# Altium integrated library Oscillator - MEMS.IntLib: 171 symbols (part 2 of 3)
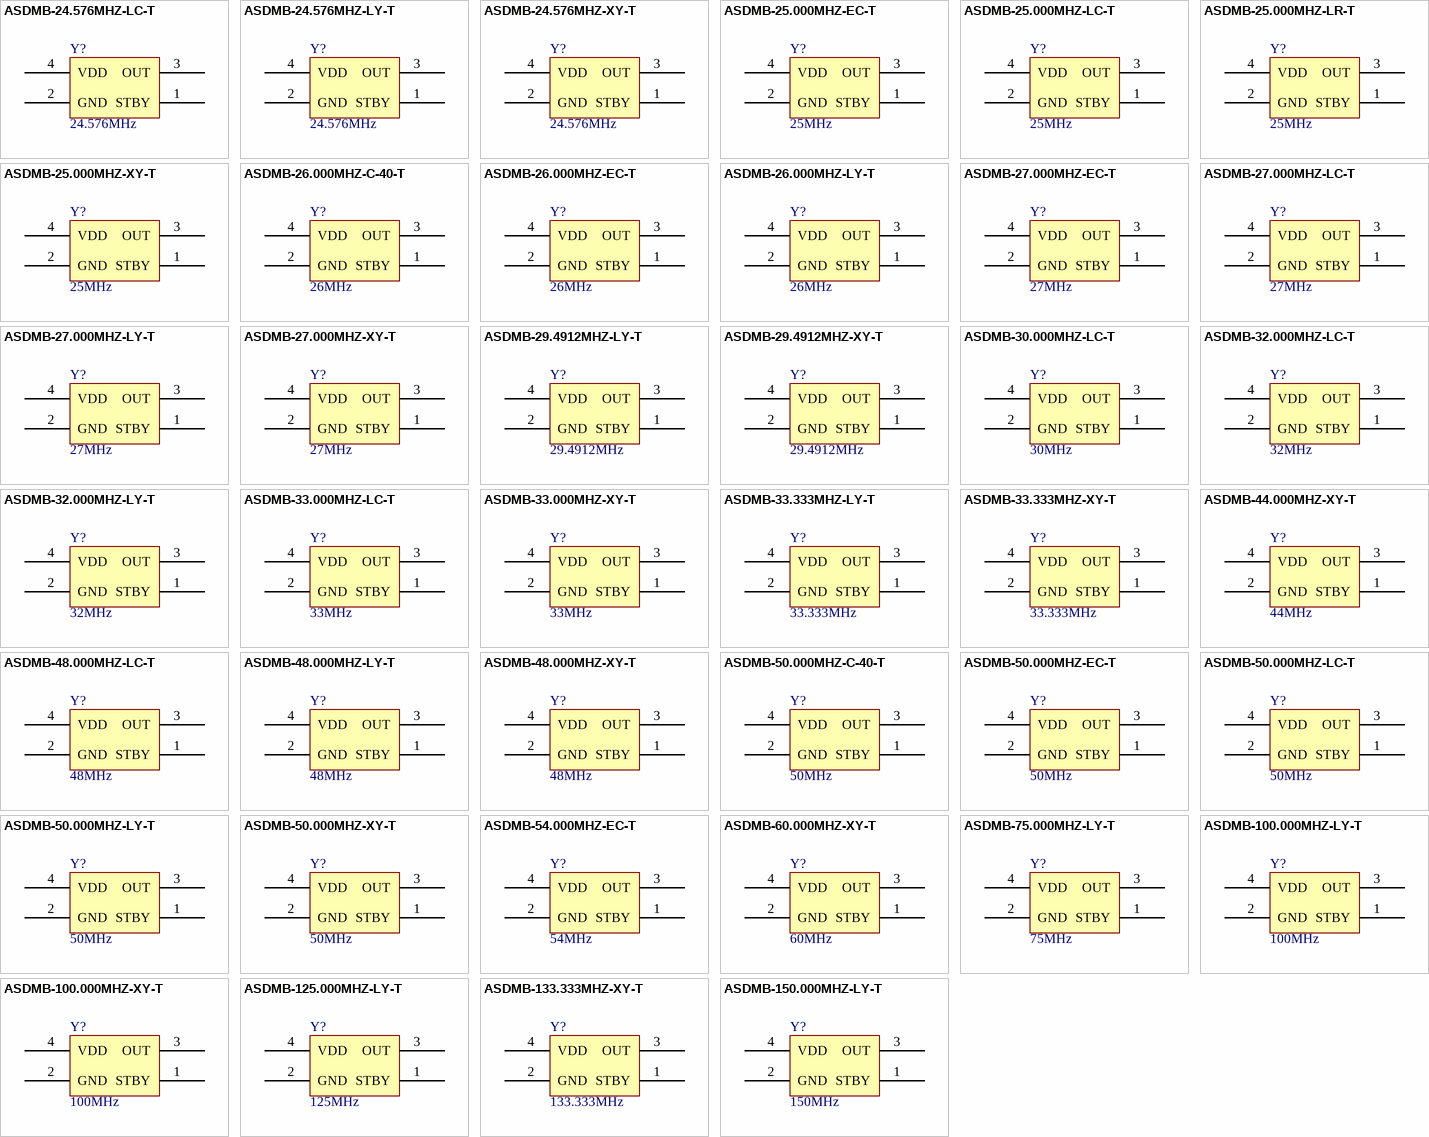
[diagram p5: symbols ASDMB-24.576MHZ-LC-T to ASDMB-150.000MHZ-LY-T]

## ASDMB-54.000MHZ-EC-T
designator Y?, comment 54MHz
OSC MEMS 54.000MHZ LVCMOS SMD; Part Number: ASDMB-54.000MHZ-EC-T; Manufacturer: Abracon LLC; Frequency Stability: 50ppm; PartId: 8968; Supplier 1: Digi-Key; Supplier Part Number 1: 535-12101-2-ND; ComponentLink1Description: Datasheet; ComponentLink1URL: http://www.abracon.com/Oscillators/ASDMB.pdf; ComponentLink2Description: Digi-Key Listing; ComponentLink2URL: https://www.digikey.com/product-detail/en/ASDMB-54.000MHZ-EC-T/535-12101-2-ND/4504540; Price: 0.9513; Type: MEMS (Silicon); Device Package: 4-SMD, No Lead (DFN, LCC); Series: Pure Silicon™ ASDMB; Frequency: 54MHz
footprint ABRACON ASDMB
pins: 1 STBY, 2 GND, 3 OUT, 4 VDD

## ASDMB-60.000MHZ-XY-T
designator Y?, comment 60MHz
OSC MEMS 60.000MHZ CMOS SMD; Part Number: ASDMB-60.000MHZ-XY-T; Manufacturer: Abracon LLC; Frequency Stability: 10ppm; PartId: 9001; Supplier 1: Digi-Key; Supplier Part Number 1: 535-11168-2-ND; ComponentLink1Description: Datasheet; ComponentLink1URL: http://www.abracon.com/Oscillators/ASDMB.pdf; ComponentLink2Description: Digi-Key Listing; ComponentLink2URL: https://www.digikey.com/product-detail/en/ASDMB-60.000MHZ-XY-T/535-11168-2-ND/2623860; Price: 1.4307; Type: MEMS (Silicon); Device Package: 4-SMD, No Lead (DFN, LCC); Series: Pure Silicon™ ASDMB; Frequency: 60MHz
footprint ABRACON ASDMB
pins: 1 STBY, 2 GND, 3 OUT, 4 VDD

## ASDMB-75.000MHZ-LY-T
designator Y?, comment 75MHz
OSC MEMS 75.000MHZ CMOS SMD; Part Number: ASDMB-75.000MHZ-LY-T; Manufacturer: Abracon LLC; Frequency Stability: 10ppm; PartId: 9003; Supplier 1: Digi-Key; Supplier Part Number 1: 535-11201-2-ND; ComponentLink1Description: Datasheet; ComponentLink1URL: http://www.abracon.com/Oscillators/ASDMB.pdf; ComponentLink2Description: Digi-Key Listing; ComponentLink2URL: https://www.digikey.com/product-detail/en/ASDMB-75.000MHZ-LY-T/535-11201-2-ND/2623863; Price: 1.4307; Type: MEMS (Silicon); Device Package: 4-SMD, No Lead (DFN, LCC); Series: Pure Silicon™ ASDMB; Frequency: 75MHz
footprint ABRACON ASDMB
pins: 1 STBY, 2 GND, 3 OUT, 4 VDD

## ASDMB-100.000MHZ-LY-T
designator Y?, comment 100MHz
OSC MEMS 100.000MHZ CMOS SMD; Part Number: ASDMB-100.000MHZ-LY-T; Manufacturer: Abracon LLC; Frequency Stability: 10ppm; PartId: 9006; Supplier 1: Digi-Key; Supplier Part Number 1: 535-11203-2-ND; ComponentLink1Description: Datasheet; ComponentLink1URL: http://www.abracon.com/Oscillators/ASDMB.pdf; ComponentLink2Description: Digi-Key Listing; ComponentLink2URL: https://www.digikey.com/product-detail/en/ASDMB-100.000MHZ-LY-T/535-11203-2-ND/2623807; Price: 1.4307; Type: MEMS (Silicon); Device Package: 4-SMD, No Lead (DFN, LCC); Series: Pure Silicon™ ASDMB; Frequency: 100MHz
footprint ABRACON ASDMB
pins: 1 STBY, 2 GND, 3 OUT, 4 VDD

## ASDMB-100.000MHZ-XY-T
designator Y?, comment 100MHz
OSC MEMS 100.000MHZ CMOS SMD; Part Number: ASDMB-100.000MHZ-XY-T; Manufacturer: Abracon LLC; Frequency Stability: 10ppm; PartId: 8961; Supplier 1: Digi-Key; Supplier Part Number 1: 535-11147-2-ND; ComponentLink1Description: Datasheet; ComponentLink1URL: http://www.abracon.com/Oscillators/ASDMB.pdf; ComponentLink2Description: Digi-Key Listing; ComponentLink2URL: https://www.digikey.com/product-detail/en/ASDMB-100.000MHZ-XY-T/535-11147-2-ND/2623808; Price: 1.5515; Type: MEMS (Silicon); Device Package: 4-SMD, No Lead (DFN, LCC); Series: Pure Silicon™ ASDMB; Frequency: 100MHz
footprint ABRACON ASDMB
pins: 1 STBY, 2 GND, 3 OUT, 4 VDD

## ASDMB-125.000MHZ-LY-T
designator Y?, comment 125MHz
OSC MEMS 125.000MHZ CMOS SMD; Part Number: ASDMB-125.000MHZ-LY-T; Manufacturer: Abracon LLC; Frequency Stability: 10ppm; PartId: 8966; Supplier 1: Digi-Key; Supplier Part Number 1: 535-11204-2-ND; ComponentLink1Description: Datasheet; ComponentLink1URL: http://www.abracon.com/Oscillators/ASDMB.pdf; ComponentLink2Description: Digi-Key Listing; ComponentLink2URL: https://www.digikey.com/product-detail/en/ASDMB-125.000MHZ-LY-T/535-11204-2-ND/2623813; Price: 1.4307; Type: MEMS (Silicon); Device Package: 4-SMD, No Lead (DFN, LCC); Series: Pure Silicon™ ASDMB; Frequency: 125MHz
footprint ABRACON ASDMB
pins: 1 STBY, 2 GND, 3 OUT, 4 VDD

## ASDMB-133.333MHZ-XY-T
designator Y?, comment 133.333MHz
OSC MEMS 133.333MHZ CMOS SMD; Part Number: ASDMB-133.333MHZ-XY-T; Manufacturer: Abracon LLC; Frequency Stability: 10ppm; PartId: 8975; Supplier 1: Digi-Key; Supplier Part Number 1: 535-11173-2-ND; ComponentLink1Description: Datasheet; ComponentLink1URL: http://www.abracon.com/Oscillators/ASDMB.pdf; ComponentLink2Description: Digi-Key Listing; ComponentLink2URL: https://www.digikey.com/product-detail/en/ASDMB-133.333MHZ-XY-T/535-11173-2-ND/2623816; Price: 1.5515; Type: MEMS (Silicon); Device Package: 4-SMD, No Lead (DFN, LCC); Series: Pure Silicon™ ASDMB; Frequency: 133.333MHz
footprint ABRACON ASDMB
pins: 1 STBY, 2 GND, 3 OUT, 4 VDD

## ASDMB-150.000MHZ-LY-T
designator Y?, comment 150MHz
OSC MEMS 150.000MHZ CMOS SMD; Part Number: ASDMB-150.000MHZ-LY-T; Manufacturer: Abracon LLC; Frequency Stability: 10ppm; PartId: 8997; Supplier 1: Digi-Key; Supplier Part Number 1: 535-11183-2-ND; ComponentLink1Description: Datasheet; ComponentLink1URL: http://www.abracon.com/Oscillators/ASDMB.pdf; ComponentLink2Description: Digi-Key Listing; ComponentLink2URL: https://www.digikey.com/product-detail/en/ASDMB-150.000MHZ-LY-T/535-11183-2-ND/2623821; Price: 1.4307; Type: MEMS (Silicon); Device Package: 4-SMD, No Lead (DFN, LCC); Series: Pure Silicon™ ASDMB; Frequency: 150MHz
footprint ABRACON ASDMB
pins: 1 STBY, 2 GND, 3 OUT, 4 VDD

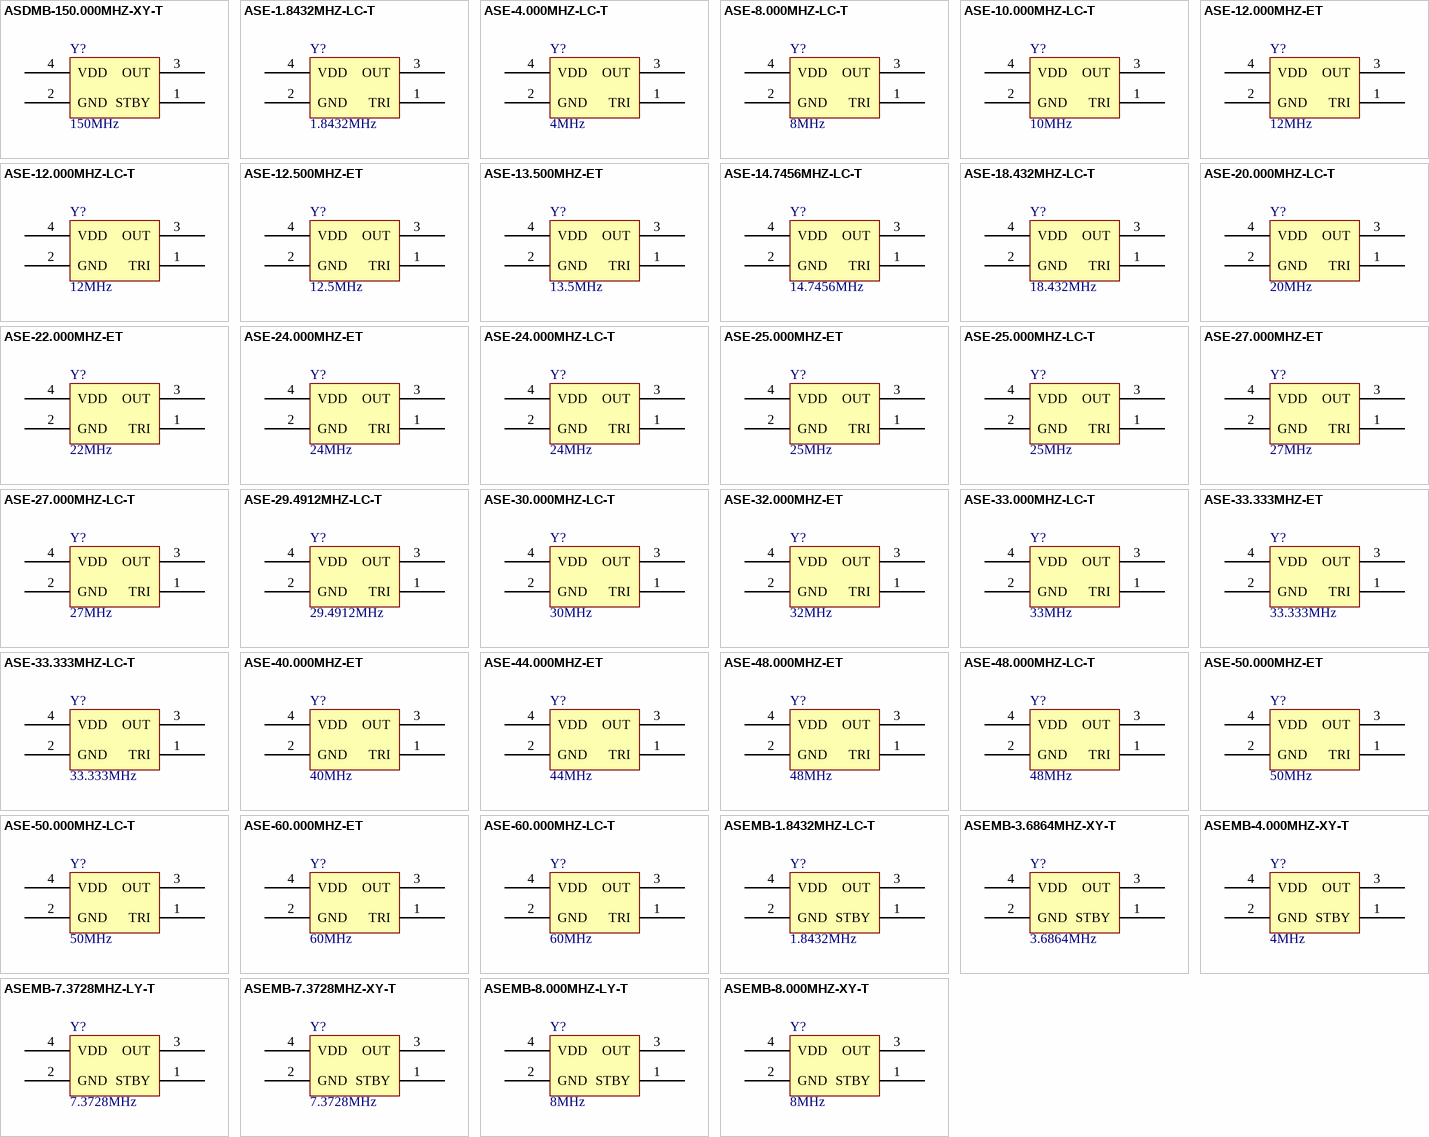
[diagram p2: symbols ASDMB-150.000MHZ-XY-T to ASEMB-8.000MHZ-XY-T]

## ASDMB-150.000MHZ-XY-T
designator Y?, comment 150MHz
OSC MEMS 150.000MHZ CMOS SMD; Part Number: ASDMB-150.000MHZ-XY-T; Manufacturer: Abracon LLC; Frequency Stability: 10ppm; PartId: 8973; Supplier 1: Digi-Key; Supplier Part Number 1: 535-11174-2-ND; ComponentLink1Description: Datasheet; ComponentLink1URL: http://www.abracon.com/Oscillators/ASDMB.pdf; ComponentLink2Description: Digi-Key Listing; ComponentLink2URL: https://www.digikey.com/product-detail/en/ASDMB-150.000MHZ-XY-T/535-11174-2-ND/2623822; Price: 1.5515; Type: MEMS (Silicon); Device Package: 4-SMD, No Lead (DFN, LCC); Series: Pure Silicon™ ASDMB; Frequency: 150MHz
footprint ABRACON ASDMB
pins: 1 STBY, 2 GND, 3 OUT, 4 VDD

## ASE-1.8432MHZ-LC-T
designator Y?, comment 1.8432MHz
OSC XO 1.8432MHZ CMOS SMD; Part Number: ASE-1.8432MHZ-LC-T; Manufacturer: Abracon LLC; Frequency Stability: 50ppm; PartId: 9076; Supplier 1: Digi-Key; Supplier Part Number 1: 535-9555-2-ND; ComponentLink1Description: Datasheet; ComponentLink1URL: http://www.abracon.com/Oscillators/ASEseries.pdf; ComponentLink2Description: Digi-Key Listing; ComponentLink2URL: https://www.digikey.com/product-detail/en/ASE-1.8432MHZ-LC-T/535-9555-2-ND/1236871; Price: 0.885; Type: XO (Standard); Device Package: 4-SMD, No Lead (DFN, LCC); Series: ASE; Frequency: 1.8432MHz
footprint ABRACON ASE
pins: 1 TRI, 2 GND, 3 OUT, 4 VDD

## ASE-4.000MHZ-LC-T
designator Y?, comment 4MHz
OSC XO 4.000MHZ CMOS SMD; Part Number: ASE-4.000MHZ-LC-T; Manufacturer: Abracon LLC; Frequency Stability: 50ppm; PartId: 9101; Supplier 1: Digi-Key; Supplier Part Number 1: 535-9556-2-ND; ComponentLink1Description: Datasheet; ComponentLink1URL: http://www.abracon.com/Oscillators/ASEseries.pdf; ComponentLink2Description: Digi-Key Listing; ComponentLink2URL: https://www.digikey.com/product-detail/en/ASE-4.000MHZ-LC-T/535-9556-2-ND/1236872; Price: 0.9587; Type: XO (Standard); Device Package: 4-SMD, No Lead (DFN, LCC); Series: ASE; Frequency: 4MHz
footprint ABRACON ASE
pins: 1 TRI, 2 GND, 3 OUT, 4 VDD

## ASE-8.000MHZ-LC-T
designator Y?, comment 8MHz
OSC XO 8.000MHZ CMOS SMD; Part Number: ASE-8.000MHZ-LC-T; Manufacturer: Abracon LLC; Frequency Stability: 50ppm; PartId: 9078; Supplier 1: Digi-Key; Supplier Part Number 1: 535-9558-2-ND; ComponentLink1Description: Datasheet; ComponentLink1URL: http://www.abracon.com/Oscillators/ASEseries.pdf; ComponentLink2Description: Digi-Key Listing; ComponentLink2URL: https://www.digikey.com/product-detail/en/ASE-8.000MHZ-LC-T/535-9558-2-ND/1236874; Price: 0.885; Type: XO (Standard); Device Package: 4-SMD, No Lead (DFN, LCC); Series: ASE; Frequency: 8MHz
footprint ABRACON ASE
pins: 1 TRI, 2 GND, 3 OUT, 4 VDD

## ASE-10.000MHZ-LC-T
designator Y?, comment 10MHz
OSC XO 10.000MHZ CMOS SMD; Part Number: ASE-10.000MHZ-LC-T; Manufacturer: Abracon LLC; Frequency Stability: 50ppm; PartId: 9075; Supplier 1: Digi-Key; Supplier Part Number 1: 535-9559-2-ND; ComponentLink1Description: Datasheet; ComponentLink1URL: http://www.abracon.com/Oscillators/ASEseries.pdf; ComponentLink2Description: Digi-Key Listing; ComponentLink2URL: https://www.digikey.com/product-detail/en/ASE-10.000MHZ-LC-T/535-9559-2-ND/1236875; Price: 0.885; Type: XO (Standard); Device Package: 4-SMD, No Lead (DFN, LCC); Series: ASE; Frequency: 10MHz
footprint ABRACON ASE
pins: 1 TRI, 2 GND, 3 OUT, 4 VDD

## ASE-12.000MHZ-ET
designator Y?, comment 12MHz
OSC XO 12.000MHZ CMOS SMD; Part Number: ASE-12.000MHZ-ET; Manufacturer: Abracon LLC; Frequency Stability: 100ppm; PartId: 9080; Supplier 1: Digi-Key; Supplier Part Number 1: 535-10313-2-ND; ComponentLink1Description: Datasheet; ComponentLink1URL: http://www.abracon.com/Oscillators/ASEseries.pdf; ComponentLink2Description: Digi-Key Listing; ComponentLink2URL: https://www.digikey.com/product-detail/en/ASE-12.000MHZ-ET/535-10313-2-ND/2269793; Price: 0.944; Type: XO (Standard); Device Package: 4-SMD, No Lead (DFN, LCC); Series: ASE; Frequency: 12MHz
footprint ABRACON ASE
pins: 1 TRI, 2 GND, 3 OUT, 4 VDD

## ASE-12.000MHZ-LC-T
designator Y?, comment 12MHz
OSC XO 12.000MHZ CMOS SMD; Part Number: ASE-12.000MHZ-LC-T; Manufacturer: Abracon LLC; Frequency Stability: 50ppm; PartId: 9072; Supplier 1: Digi-Key; Supplier Part Number 1: 535-9561-2-ND; ComponentLink1Description: Datasheet; ComponentLink1URL: http://www.abracon.com/Oscillators/ASEseries.pdf; ComponentLink2Description: Digi-Key Listing; ComponentLink2URL: https://www.digikey.com/product-detail/en/ASE-12.000MHZ-LC-T/535-9561-2-ND/1236877; Price: 0.8555; Type: XO (Standard); Device Package: 4-SMD, No Lead (DFN, LCC); Series: ASE; Frequency: 12MHz
footprint ABRACON ASE
pins: 1 TRI, 2 GND, 3 OUT, 4 VDD

## ASE-12.500MHZ-ET
designator Y?, comment 12.5MHz
OSC XO 12.5MHZ CMOS SMD; Part Number: ASE-12.500MHZ-ET; Manufacturer: Abracon LLC; Frequency Stability: 100ppm; PartId: 9091; Supplier 1: Digi-Key; Supplier Part Number 1: 535-9981-2-ND; ComponentLink1Description: Datasheet; ComponentLink1URL: http://www.abracon.com/Oscillators/ASEseries.pdf; ComponentLink2Description: Digi-Key Listing; ComponentLink2URL: https://www.digikey.com/product-detail/en/ASE-12.500MHZ-ET/535-9981-2-ND/2001348; Price: 0.944; Type: XO (Standard); Device Package: 4-SMD, No Lead (DFN, LCC); Series: ASE; Frequency: 12.5MHz
footprint ABRACON ASE
pins: 1 TRI, 2 GND, 3 OUT, 4 VDD

## ASE-13.500MHZ-ET
designator Y?, comment 13.5MHz
OSC XO 13.5MHZ CMOS SMD; Part Number: ASE-13.500MHZ-ET; Manufacturer: Abracon LLC; Frequency Stability: 100ppm; PartId: 9093; Supplier 1: Digi-Key; Supplier Part Number 1: 535-9982-2-ND; ComponentLink1Description: Datasheet; ComponentLink1URL: http://www.abracon.com/Oscillators/ASEseries.pdf; ComponentLink2Description: Digi-Key Listing; ComponentLink2URL: https://www.digikey.com/product-detail/en/ASE-13.500MHZ-ET/535-9982-2-ND/2001349; Price: 0.944; Type: XO (Standard); Device Package: 4-SMD, No Lead (DFN, LCC); Series: ASE; Frequency: 13.5MHz
footprint ABRACON ASE
pins: 1 TRI, 2 GND, 3 OUT, 4 VDD

## ASE-14.7456MHZ-LC-T
designator Y?, comment 14.7456MHz
OSC XO 14.7456MHZ CMOS SMD; Part Number: ASE-14.7456MHZ-LC-T; Manufacturer: Abracon LLC; Frequency Stability: 50ppm; PartId: 9098; Supplier 1: Digi-Key; Supplier Part Number 1: 535-9563-2-ND; ComponentLink1Description: Datasheet; ComponentLink1URL: http://www.abracon.com/Oscillators/ASEseries.pdf; ComponentLink2Description: Digi-Key Listing; ComponentLink2URL: https://www.digikey.com/product-detail/en/ASE-14.7456MHZ-LC-T/535-9563-2-ND/1236879; Price: 0.9587; Type: XO (Standard); Device Package: 4-SMD, No Lead (DFN, LCC); Series: ASE; Frequency: 14.7456MHz
footprint ABRACON ASE
pins: 1 TRI, 2 GND, 3 OUT, 4 VDD

## ASE-18.432MHZ-LC-T
designator Y?, comment 18.432MHz
OSC XO 18.432MHZ CMOS SMD; Part Number: ASE-18.432MHZ-LC-T; Manufacturer: Abracon LLC; Frequency Stability: 50ppm; PartId: 9077; Supplier 1: Digi-Key; Supplier Part Number 1: 535-9564-2-ND; ComponentLink1Description: Datasheet; ComponentLink1URL: http://www.abracon.com/Oscillators/ASEseries.pdf; ComponentLink2Description: Digi-Key Listing; ComponentLink2URL: https://www.digikey.com/product-detail/en/ASE-18.432MHZ-LC-T/535-9564-2-ND/1236881; Price: 0.885; Type: XO (Standard); Device Package: 4-SMD, No Lead (DFN, LCC); Series: ASE; Frequency: 18.432MHz
footprint ABRACON ASE
pins: 1 TRI, 2 GND, 3 OUT, 4 VDD

## ASE-20.000MHZ-LC-T
designator Y?, comment 20MHz
OSC XO 20.000MHZ CMOS SMD; Part Number: ASE-20.000MHZ-LC-T; Manufacturer: Abracon LLC; Frequency Stability: 50ppm; PartId: 9083; Supplier 1: Digi-Key; Supplier Part Number 1: 535-9565-2-ND; ComponentLink1Description: Datasheet; ComponentLink1URL: http://www.abracon.com/Oscillators/ASEseries.pdf; ComponentLink2Description: Digi-Key Listing; ComponentLink2URL: https://www.digikey.com/product-detail/en/ASE-20.000MHZ-LC-T/535-9565-2-ND/1236882; Price: 0.9587; Type: XO (Standard); Device Package: 4-SMD, No Lead (DFN, LCC); Series: ASE; Frequency: 20MHz
footprint ABRACON ASE
pins: 1 TRI, 2 GND, 3 OUT, 4 VDD

## ASE-22.000MHZ-ET
designator Y?, comment 22MHz
OSC XO 22.000MHZ CMOS SMD; Part Number: ASE-22.000MHZ-ET; Manufacturer: Abracon LLC; Frequency Stability: 100ppm; PartId: 9088; Supplier 1: Digi-Key; Supplier Part Number 1: 535-9984-2-ND; ComponentLink1Description: Datasheet; ComponentLink1URL: http://www.abracon.com/Oscillators/ASEseries.pdf; ComponentLink2Description: Digi-Key Listing; ComponentLink2URL: https://www.digikey.com/product-detail/en/ASE-22.000MHZ-ET/535-9984-2-ND/2001351; Price: 0.944; Type: XO (Standard); Device Package: 4-SMD, No Lead (DFN, LCC); Series: ASE; Frequency: 22MHz
footprint ABRACON ASE
pins: 1 TRI, 2 GND, 3 OUT, 4 VDD

## ASE-24.000MHZ-ET
designator Y?, comment 24MHz
OSC XO 24.000MHZ CMOS SMD; Part Number: ASE-24.000MHZ-ET; Manufacturer: Abracon LLC; Frequency Stability: 100ppm; PartId: 9084; Supplier 1: Digi-Key; Supplier Part Number 1: 535-9985-2-ND; ComponentLink1Description: Datasheet; ComponentLink1URL: http://www.abracon.com/Oscillators/ASEseries.pdf; ComponentLink2Description: Digi-Key Listing; ComponentLink2URL: https://www.digikey.com/product-detail/en/ASE-24.000MHZ-ET/535-9985-2-ND/2001352; Price: 0.944; Type: XO (Standard); Device Package: 4-SMD, No Lead (DFN, LCC); Series: ASE; Frequency: 24MHz
footprint ABRACON ASE
pins: 1 TRI, 2 GND, 3 OUT, 4 VDD

## ASE-24.000MHZ-LC-T
designator Y?, comment 24MHz
OSC XO 24.000MHZ CMOS SMD; Part Number: ASE-24.000MHZ-LC-T; Manufacturer: Abracon LLC; Frequency Stability: 50ppm; PartId: 9073; Supplier 1: Digi-Key; Supplier Part Number 1: 535-9566-2-ND; ComponentLink1Description: Datasheet; ComponentLink1URL: http://www.abracon.com/Oscillators/ASEseries.pdf; ComponentLink2Description: Digi-Key Listing; ComponentLink2URL: https://www.digikey.com/product-detail/en/ASE-24.000MHZ-LC-T/535-9566-2-ND/1236883; Price: 0.8555; Type: XO (Standard); Device Package: 4-SMD, No Lead (DFN, LCC); Series: ASE; Frequency: 24MHz
footprint ABRACON ASE
pins: 1 TRI, 2 GND, 3 OUT, 4 VDD

## ASE-25.000MHZ-ET
designator Y?, comment 25MHz
OSC XO 25.000MHZ CMOS SMD; Part Number: ASE-25.000MHZ-ET; Manufacturer: Abracon LLC; Frequency Stability: 100ppm; PartId: 9081; Supplier 1: Digi-Key; Supplier Part Number 1: 535-9987-2-ND; ComponentLink1Description: Datasheet; ComponentLink1URL: http://www.abracon.com/Oscillators/ASEseries.pdf; ComponentLink2Description: Digi-Key Listing; ComponentLink2URL: https://www.digikey.com/product-detail/en/ASE-25.000MHZ-ET/535-9987-2-ND/2001354; Price: 0.944; Type: XO (Standard); Device Package: 4-SMD, No Lead (DFN, LCC); Series: ASE; Frequency: 25MHz
footprint ABRACON ASE
pins: 1 TRI, 2 GND, 3 OUT, 4 VDD

## ASE-25.000MHZ-LC-T
designator Y?, comment 25MHz
OSC XO 25.000MHZ CMOS SMD; Part Number: ASE-25.000MHZ-LC-T; Manufacturer: Abracon LLC; Frequency Stability: 50ppm; PartId: 9074; Supplier 1: Digi-Key; Supplier Part Number 1: 535-9568-2-ND; ComponentLink1Description: Datasheet; ComponentLink1URL: http://www.abracon.com/Oscillators/ASEseries.pdf; ComponentLink2Description: Digi-Key Listing; ComponentLink2URL: https://www.digikey.com/product-detail/en/ASE-25.000MHZ-LC-T/535-9568-2-ND/1236885; Price: 0.885; Type: XO (Standard); Device Package: 4-SMD, No Lead (DFN, LCC); Series: ASE; Frequency: 25MHz
footprint ABRACON ASE
pins: 1 TRI, 2 GND, 3 OUT, 4 VDD

## ASE-27.000MHZ-ET
designator Y?, comment 27MHz
OSC XO 27.000MHZ CMOS SMD; Part Number: ASE-27.000MHZ-ET; Manufacturer: Abracon LLC; Frequency Stability: 100ppm; PartId: 9089; Supplier 1: Digi-Key; Supplier Part Number 1: 535-9988-2-ND; ComponentLink1Description: Datasheet; ComponentLink1URL: http://www.abracon.com/Oscillators/ASEseries.pdf; ComponentLink2Description: Digi-Key Listing; ComponentLink2URL: https://www.digikey.com/product-detail/en/ASE-27.000MHZ-ET/535-9988-2-ND/2001355; Price: 0.944; Type: XO (Standard); Device Package: 4-SMD, No Lead (DFN, LCC); Series: ASE; Frequency: 27MHz
footprint ABRACON ASE
pins: 1 TRI, 2 GND, 3 OUT, 4 VDD

## ASE-27.000MHZ-LC-T
designator Y?, comment 27MHz
OSC XO 27.000MHZ CMOS SMD; Part Number: ASE-27.000MHZ-LC-T; Manufacturer: Abracon LLC; Frequency Stability: 50ppm; PartId: 9085; Supplier 1: Digi-Key; Supplier Part Number 1: 535-9569-2-ND; ComponentLink1Description: Datasheet; ComponentLink1URL: http://www.abracon.com/Oscillators/ASEseries.pdf; ComponentLink2Description: Digi-Key Listing; ComponentLink2URL: https://www.digikey.com/product-detail/en/ASE-27.000MHZ-LC-T/535-9569-2-ND/1236886; Price: 0.9587; Type: XO (Standard); Device Package: 4-SMD, No Lead (DFN, LCC); Series: ASE; Frequency: 27MHz
footprint ABRACON ASE
pins: 1 TRI, 2 GND, 3 OUT, 4 VDD

## ASE-29.4912MHZ-LC-T
designator Y?, comment 29.4912MHz
OSC XO 29.4912MHZ CMOS SMD; Part Number: ASE-29.4912MHZ-LC-T; Manufacturer: Abracon LLC; Frequency Stability: 50ppm; PartId: 9100; Supplier 1: Digi-Key; Supplier Part Number 1: 535-9570-2-ND; ComponentLink1Description: Datasheet; ComponentLink1URL: http://www.abracon.com/Oscillators/ASEseries.pdf; ComponentLink2Description: Digi-Key Listing; ComponentLink2URL: https://www.digikey.com/product-detail/en/ASE-29.4912MHZ-LC-T/535-9570-2-ND/1236887; Price: 0.9587; Type: XO (Standard); Device Package: 4-SMD, No Lead (DFN, LCC); Series: ASE; Frequency: 29.4912MHz
footprint ABRACON ASE
pins: 1 TRI, 2 GND, 3 OUT, 4 VDD

## ASE-30.000MHZ-LC-T
designator Y?, comment 30MHz
OSC XO 30.000MHZ CMOS SMD; Part Number: ASE-30.000MHZ-LC-T; Manufacturer: Abracon LLC; Frequency Stability: 50ppm; PartId: 9099; Supplier 1: Digi-Key; Supplier Part Number 1: 535-9571-2-ND; ComponentLink1Description: Datasheet; ComponentLink1URL: http://www.abracon.com/Oscillators/ASEseries.pdf; ComponentLink2Description: Digi-Key Listing; ComponentLink2URL: https://www.digikey.com/product-detail/en/ASE-30.000MHZ-LC-T/535-9571-2-ND/1236888; Price: 0.9587; Type: XO (Standard); Device Package: 4-SMD, No Lead (DFN, LCC); Series: ASE; Frequency: 30MHz
footprint ABRACON ASE
pins: 1 TRI, 2 GND, 3 OUT, 4 VDD

## ASE-32.000MHZ-ET
designator Y?, comment 32MHz
OSC XO 32.000MHZ CMOS SMD; Part Number: ASE-32.000MHZ-ET; Manufacturer: Abracon LLC; Frequency Stability: 100ppm; PartId: 9094; Supplier 1: Digi-Key; Supplier Part Number 1: 535-9990-2-ND; ComponentLink1Description: Datasheet; ComponentLink1URL: http://www.abracon.com/Oscillators/ASEseries.pdf; ComponentLink2Description: Digi-Key Listing; ComponentLink2URL: https://www.digikey.com/product-detail/en/ASE-32.000MHZ-ET/535-9990-2-ND/2001357; Price: 0.944; Type: XO (Standard); Device Package: 4-SMD, No Lead (DFN, LCC); Series: ASE; Frequency: 32MHz
footprint ABRACON ASE
pins: 1 TRI, 2 GND, 3 OUT, 4 VDD

## ASE-33.000MHZ-LC-T
designator Y?, comment 33MHz
OSC XO 33.000MHZ CMOS SMD; Part Number: ASE-33.000MHZ-LC-T; Manufacturer: Abracon LLC; Frequency Stability: 50ppm; PartId: 9086; Supplier 1: Digi-Key; Supplier Part Number 1: 535-9573-2-ND; ComponentLink1Description: Datasheet; ComponentLink1URL: http://www.abracon.com/Oscillators/ASEseries.pdf; ComponentLink2Description: Digi-Key Listing; ComponentLink2URL: https://www.digikey.com/product-detail/en/ASE-33.000MHZ-LC-T/535-9573-2-ND/1236890; Price: 0.9587; Type: XO (Standard); Device Package: 4-SMD, No Lead (DFN, LCC); Series: ASE; Frequency: 33MHz
footprint ABRACON ASE
pins: 1 TRI, 2 GND, 3 OUT, 4 VDD

## ASE-33.333MHZ-ET
designator Y?, comment 33.333MHz
OSC XO 33.333MHZ CMOS SMD; Part Number: ASE-33.333MHZ-ET; Manufacturer: Abracon LLC; Frequency Stability: 100ppm; PartId: 9095; Supplier 1: Digi-Key; Supplier Part Number 1: 535-9992-2-ND; ComponentLink1Description: Datasheet; ComponentLink1URL: http://www.abracon.com/Oscillators/ASEseries.pdf; ComponentLink2Description: Digi-Key Listing; ComponentLink2URL: https://www.digikey.com/product-detail/en/ASE-33.333MHZ-ET/535-9992-2-ND/2001359; Price: 0.944; Type: XO (Standard); Device Package: 4-SMD, No Lead (DFN, LCC); Series: ASE; Frequency: 33.333MHz
footprint ABRACON ASE
pins: 1 TRI, 2 GND, 3 OUT, 4 VDD

## ASE-33.333MHZ-LC-T
designator Y?, comment 33.333MHz
OSC XO 33.333MHZ CMOS SMD; Part Number: ASE-33.333MHZ-LC-T; Manufacturer: Abracon LLC; Frequency Stability: 50ppm; PartId: 9082; Supplier 1: Digi-Key; Supplier Part Number 1: 535-9574-2-ND; ComponentLink1Description: Datasheet; ComponentLink1URL: http://www.abracon.com/Oscillators/ASEseries.pdf; ComponentLink2Description: Digi-Key Listing; ComponentLink2URL: https://www.digikey.com/product-detail/en/ASE-33.333MHZ-LC-T/535-9574-2-ND/1236891; Price: 0.9587; Type: XO (Standard); Device Package: 4-SMD, No Lead (DFN, LCC); Series: ASE; Frequency: 33.333MHz
footprint ABRACON ASE
pins: 1 TRI, 2 GND, 3 OUT, 4 VDD

## ASE-40.000MHZ-ET
designator Y?, comment 40MHz
OSC XO 40.000MHZ CMOS SMD; Part Number: ASE-40.000MHZ-ET; Manufacturer: Abracon LLC; Frequency Stability: 100ppm; PartId: 9096; Supplier 1: Digi-Key; Supplier Part Number 1: 535-9993-2-ND; ComponentLink1Description: Datasheet; ComponentLink1URL: http://www.abracon.com/Oscillators/ASEseries.pdf; ComponentLink2Description: Digi-Key Listing; ComponentLink2URL: https://www.digikey.com/product-detail/en/ASE-40.000MHZ-ET/535-9993-2-ND/2001360; Price: 0.944; Type: XO (Standard); Device Package: 4-SMD, No Lead (DFN, LCC); Series: ASE; Frequency: 40MHz
footprint ABRACON ASE
pins: 1 TRI, 2 GND, 3 OUT, 4 VDD

## ASE-44.000MHZ-ET
designator Y?, comment 44MHz
OSC XO 44.000MHZ CMOS SMD; Part Number: ASE-44.000MHZ-ET; Manufacturer: Abracon LLC; Frequency Stability: 100ppm; PartId: 9097; Supplier 1: Digi-Key; Supplier Part Number 1: 535-9994-2-ND; ComponentLink1Description: Datasheet; ComponentLink1URL: http://www.abracon.com/Oscillators/ASEseries.pdf; ComponentLink2Description: Digi-Key Listing; ComponentLink2URL: https://www.digikey.com/product-detail/en/ASE-44.000MHZ-ET/535-9994-2-ND/2001361; Price: 0.944; Type: XO (Standard); Device Package: 4-SMD, No Lead (DFN, LCC); Series: ASE; Frequency: 44MHz
footprint ABRACON ASE
pins: 1 TRI, 2 GND, 3 OUT, 4 VDD

## ASE-48.000MHZ-ET
designator Y?, comment 48MHz
OSC XO 48.000MHZ CMOS SMD; Part Number: ASE-48.000MHZ-ET; Manufacturer: Abracon LLC; Frequency Stability: 100ppm; PartId: 9087; Supplier 1: Digi-Key; Supplier Part Number 1: 535-9995-2-ND; ComponentLink1Description: Datasheet; ComponentLink1URL: http://www.abracon.com/Oscillators/ASEseries.pdf; ComponentLink2Description: Digi-Key Listing; ComponentLink2URL: https://www.digikey.com/product-detail/en/ASE-48.000MHZ-ET/535-9995-2-ND/2001362; Price: 0.944; Type: XO (Standard); Device Package: 4-SMD, No Lead (DFN, LCC); Series: ASE; Frequency: 48MHz
footprint ABRACON ASE
pins: 1 TRI, 2 GND, 3 OUT, 4 VDD

## ASE-48.000MHZ-LC-T
designator Y?, comment 48MHz
OSC XO 48.000MHZ CMOS SMD; Part Number: ASE-48.000MHZ-LC-T; Manufacturer: Abracon LLC; Frequency Stability: 50ppm; PartId: 9079; Supplier 1: Digi-Key; Supplier Part Number 1: 535-9576-2-ND; ComponentLink1Description: Datasheet; ComponentLink1URL: http://www.abracon.com/Oscillators/ASEseries.pdf; ComponentLink2Description: Digi-Key Listing; ComponentLink2URL: https://www.digikey.com/product-detail/en/ASE-48.000MHZ-LC-T/535-9576-2-ND/1236893; Price: 0.885; Type: XO (Standard); Device Package: 4-SMD, No Lead (DFN, LCC); Series: ASE; Frequency: 48MHz
footprint ABRACON ASE
pins: 1 TRI, 2 GND, 3 OUT, 4 VDD

## ASE-50.000MHZ-ET
designator Y?, comment 50MHz
OSC XO 50.000MHZ CMOS SMD; Part Number: ASE-50.000MHZ-ET; Manufacturer: Abracon LLC; Frequency Stability: 100ppm; PartId: 9092; Supplier 1: Digi-Key; Supplier Part Number 1: 535-9996-2-ND; ComponentLink1Description: Datasheet; ComponentLink1URL: http://www.abracon.com/Oscillators/ASEseries.pdf; ComponentLink2Description: Digi-Key Listing; ComponentLink2URL: https://www.digikey.com/product-detail/en/ASE-50.000MHZ-ET/535-9996-2-ND/2001363; Price: 0.944; Type: XO (Standard); Device Package: 4-SMD, No Lead (DFN, LCC); Series: ASE; Frequency: 50MHz
footprint ABRACON ASE
pins: 1 TRI, 2 GND, 3 OUT, 4 VDD

## ASE-50.000MHZ-LC-T
designator Y?, comment 50MHz
OSC XO 50.000MHZ CMOS SMD; Part Number: ASE-50.000MHZ-LC-T; Manufacturer: Abracon LLC; Frequency Stability: 50ppm; PartId: 9071; Supplier 1: Digi-Key; Supplier Part Number 1: 535-9577-2-ND; ComponentLink1Description: Datasheet; ComponentLink1URL: http://www.abracon.com/Oscillators/ASEseries.pdf; ComponentLink2Description: Digi-Key Listing; ComponentLink2URL: https://www.digikey.com/product-detail/en/ASE-50.000MHZ-LC-T/535-9577-2-ND/1236894; Price: 0.8555; Type: XO (Standard); Device Package: 4-SMD, No Lead (DFN, LCC); Series: ASE; Frequency: 50MHz
footprint ABRACON ASE
pins: 1 TRI, 2 GND, 3 OUT, 4 VDD

## ASE-60.000MHZ-ET
designator Y?, comment 60MHz
OSC XO 60.000MHZ CMOS SMD; Part Number: ASE-60.000MHZ-ET; Manufacturer: Abracon LLC; Frequency Stability: 100ppm; PartId: 9090; Supplier 1: Digi-Key; Supplier Part Number 1: 535-9997-2-ND; ComponentLink1Description: Datasheet; ComponentLink1URL: http://www.abracon.com/Oscillators/ASEseries.pdf; ComponentLink2Description: Digi-Key Listing; ComponentLink2URL: https://www.digikey.com/product-detail/en/ASE-60.000MHZ-ET/535-9997-2-ND/2001364; Price: 0.944; Type: XO (Standard); Device Package: 4-SMD, No Lead (DFN, LCC); Series: ASE; Frequency: 60MHz
footprint ABRACON ASE
pins: 1 TRI, 2 GND, 3 OUT, 4 VDD

## ASE-60.000MHZ-LC-T
designator Y?, comment 60MHz
OSC XO 60.000MHZ CMOS SMD; Part Number: ASE-60.000MHZ-LC-T; Manufacturer: Abracon LLC; Frequency Stability: 50ppm; PartId: 9102; Supplier 1: Digi-Key; Supplier Part Number 1: 535-9578-2-ND; ComponentLink1Description: Datasheet; ComponentLink1URL: http://www.abracon.com/Oscillators/ASEseries.pdf; ComponentLink2Description: Digi-Key Listing; ComponentLink2URL: https://www.digikey.com/product-detail/en/ASE-60.000MHZ-LC-T/535-9578-2-ND/1236895; Price: 0.9587; Type: XO (Standard); Device Package: 4-SMD, No Lead (DFN, LCC); Series: ASE; Frequency: 60MHz
footprint ABRACON ASE
pins: 1 TRI, 2 GND, 3 OUT, 4 VDD

## ASEMB-1.8432MHZ-LC-T
designator Y?, comment 1.8432MHz
OSC MEMS 1.8432MHZ CMOS SMD; Part Number: ASEMB-1.8432MHZ-LC-T; Manufacturer: Abracon LLC; Frequency Stability: 50ppm; PartId: 9026; Supplier 1: Digi-Key; Supplier Part Number 1: 535-11741-2-ND; ComponentLink1Description: Datasheet; ComponentLink1URL: http://www.abracon.com/Oscillators/ASEMB.pdf; ComponentLink2Description: Digi-Key Listing; ComponentLink2URL: https://www.digikey.com/product-detail/en/ASEMB-1.8432MHZ-LC-T/535-11741-2-ND/2809977; Price: 0.69; Type: MEMS (Silicon); Device Package: 4-SMD, No Lead (DFN, LCC); Series: Pure Silicon™ ASEMB; Frequency: 1.8432MHz
footprint ABRACON ASEMB
pins: 1 STBY, 2 GND, 3 OUT, 4 VDD

## ASEMB-3.6864MHZ-XY-T
designator Y?, comment 3.6864MHz
OSC MEMS 3.6864MHZ CMOS SMD; Part Number: ASEMB-3.6864MHZ-XY-T; Manufacturer: Abracon LLC; Frequency Stability: 10ppm; PartId: 9064; Supplier 1: Digi-Key; Supplier Part Number 1: 535-11129-2-ND; ComponentLink1Description: Datasheet; ComponentLink1URL: http://www.abracon.com/Oscillators/ASEMB.pdf; ComponentLink2Description: Digi-Key Listing; ComponentLink2URL: https://www.digikey.com/product-detail/en/ASEMB-3.6864MHZ-XY-T/535-11129-2-ND/2623906; Price: 1.4012; Type: MEMS (Silicon); Device Package: 4-SMD, No Lead (DFN, LCC); Series: Pure Silicon™ ASEMB; Frequency: 3.6864MHz
footprint ABRACON ASEMB
pins: 1 STBY, 2 GND, 3 OUT, 4 VDD

## ASEMB-4.000MHZ-XY-T
designator Y?, comment 4MHz
OSC MEMS 4.000MHZ CMOS SMD; Part Number: ASEMB-4.000MHZ-XY-T; Manufacturer: Abracon LLC; Frequency Stability: 10ppm; PartId: 9067; Supplier 1: Digi-Key; Supplier Part Number 1: 535-11133-2-ND; ComponentLink1Description: Datasheet; ComponentLink1URL: http://www.abracon.com/Oscillators/ASEMB.pdf; ComponentLink2Description: Digi-Key Listing; ComponentLink2URL: https://www.digikey.com/product-detail/en/ASEMB-4.000MHZ-XY-T/535-11133-2-ND/2623916; Price: 1.4012; Type: MEMS (Silicon); Device Package: 4-SMD, No Lead (DFN, LCC); Series: Pure Silicon™ ASEMB; Frequency: 4MHz
footprint ABRACON ASEMB
pins: 1 STBY, 2 GND, 3 OUT, 4 VDD

## ASEMB-7.3728MHZ-LY-T
designator Y?, comment 7.3728MHz
OSC MEMS 7.3728MHZ CMOS SMD; Part Number: ASEMB-7.3728MHZ-LY-T; Manufacturer: Abracon LLC; Frequency Stability: 10ppm; PartId: 9049; Supplier 1: Digi-Key; Supplier Part Number 1: 535-11105-2-ND; ComponentLink1Description: Datasheet; ComponentLink1URL: http://www.abracon.com/Oscillators/ASEMB.pdf; ComponentLink2Description: Digi-Key Listing; ComponentLink2URL: https://www.digikey.com/product-detail/en/ASEMB-7.3728MHZ-LY-T/535-11105-2-ND/2623925; Price: 1.2537; Type: MEMS (Silicon); Device Package: 4-SMD, No Lead (DFN, LCC); Series: Pure Silicon™ ASEMB; Frequency: 7.3728MHz
footprint ABRACON ASEMB
pins: 1 STBY, 2 GND, 3 OUT, 4 VDD

## ASEMB-7.3728MHZ-XY-T
designator Y?, comment 7.3728MHz
OSC MEMS 7.3728MHZ CMOS SMD; Part Number: ASEMB-7.3728MHZ-XY-T; Manufacturer: Abracon LLC; Frequency Stability: 10ppm; PartId: 9065; Supplier 1: Digi-Key; Supplier Part Number 1: 535-11137-2-ND; ComponentLink1Description: Datasheet; ComponentLink1URL: http://www.abracon.com/Oscillators/ASEMB.pdf; ComponentLink2Description: Digi-Key Listing; ComponentLink2URL: https://www.digikey.com/product-detail/en/ASEMB-7.3728MHZ-XY-T/535-11137-2-ND/2623926; Price: 1.4012; Type: MEMS (Silicon); Device Package: 4-SMD, No Lead (DFN, LCC); Series: Pure Silicon™ ASEMB; Frequency: 7.3728MHz
footprint ABRACON ASEMB
pins: 1 STBY, 2 GND, 3 OUT, 4 VDD

## ASEMB-8.000MHZ-LY-T
designator Y?, comment 8MHz
OSC MEMS 8.000MHZ CMOS SMD; Part Number: ASEMB-8.000MHZ-LY-T; Manufacturer: Abracon LLC; Frequency Stability: 10ppm; PartId: 9019; Supplier 1: Digi-Key; Supplier Part Number 1: 535-11106-2-ND; ComponentLink1Description: Datasheet; ComponentLink1URL: http://www.abracon.com/Oscillators/ASEMB.pdf; ComponentLink2Description: Digi-Key Listing; ComponentLink2URL: https://www.digikey.com/product-detail/en/ASEMB-8.000MHZ-LY-T/535-11106-2-ND/2623929; Price: 1.2537; Type: MEMS (Silicon); Device Package: 4-SMD, No Lead (DFN, LCC); Series: Pure Silicon™ ASEMB; Frequency: 8MHz
footprint ABRACON ASEMB
pins: 1 STBY, 2 GND, 3 OUT, 4 VDD

## ASEMB-8.000MHZ-XY-T
designator Y?, comment 8MHz
OSC MEMS 8.000MHZ CMOS SMD; Part Number: ASEMB-8.000MHZ-XY-T; Manufacturer: Abracon LLC; Frequency Stability: 10ppm; PartId: 9017; Supplier 1: Digi-Key; Supplier Part Number 1: 535-11138-2-ND; ComponentLink1Description: Datasheet; ComponentLink1URL: http://www.abracon.com/Oscillators/ASEMB.pdf; ComponentLink2Description: Digi-Key Listing; ComponentLink2URL: https://www.digikey.com/product-detail/en/ASEMB-8.000MHZ-XY-T/535-11138-2-ND/2623930; Price: 1.2242; Type: MEMS (Silicon); Device Package: 4-SMD, No Lead (DFN, LCC); Series: Pure Silicon™ ASEMB; Frequency: 8MHz
footprint ABRACON ASEMB
pins: 1 STBY, 2 GND, 3 OUT, 4 VDD

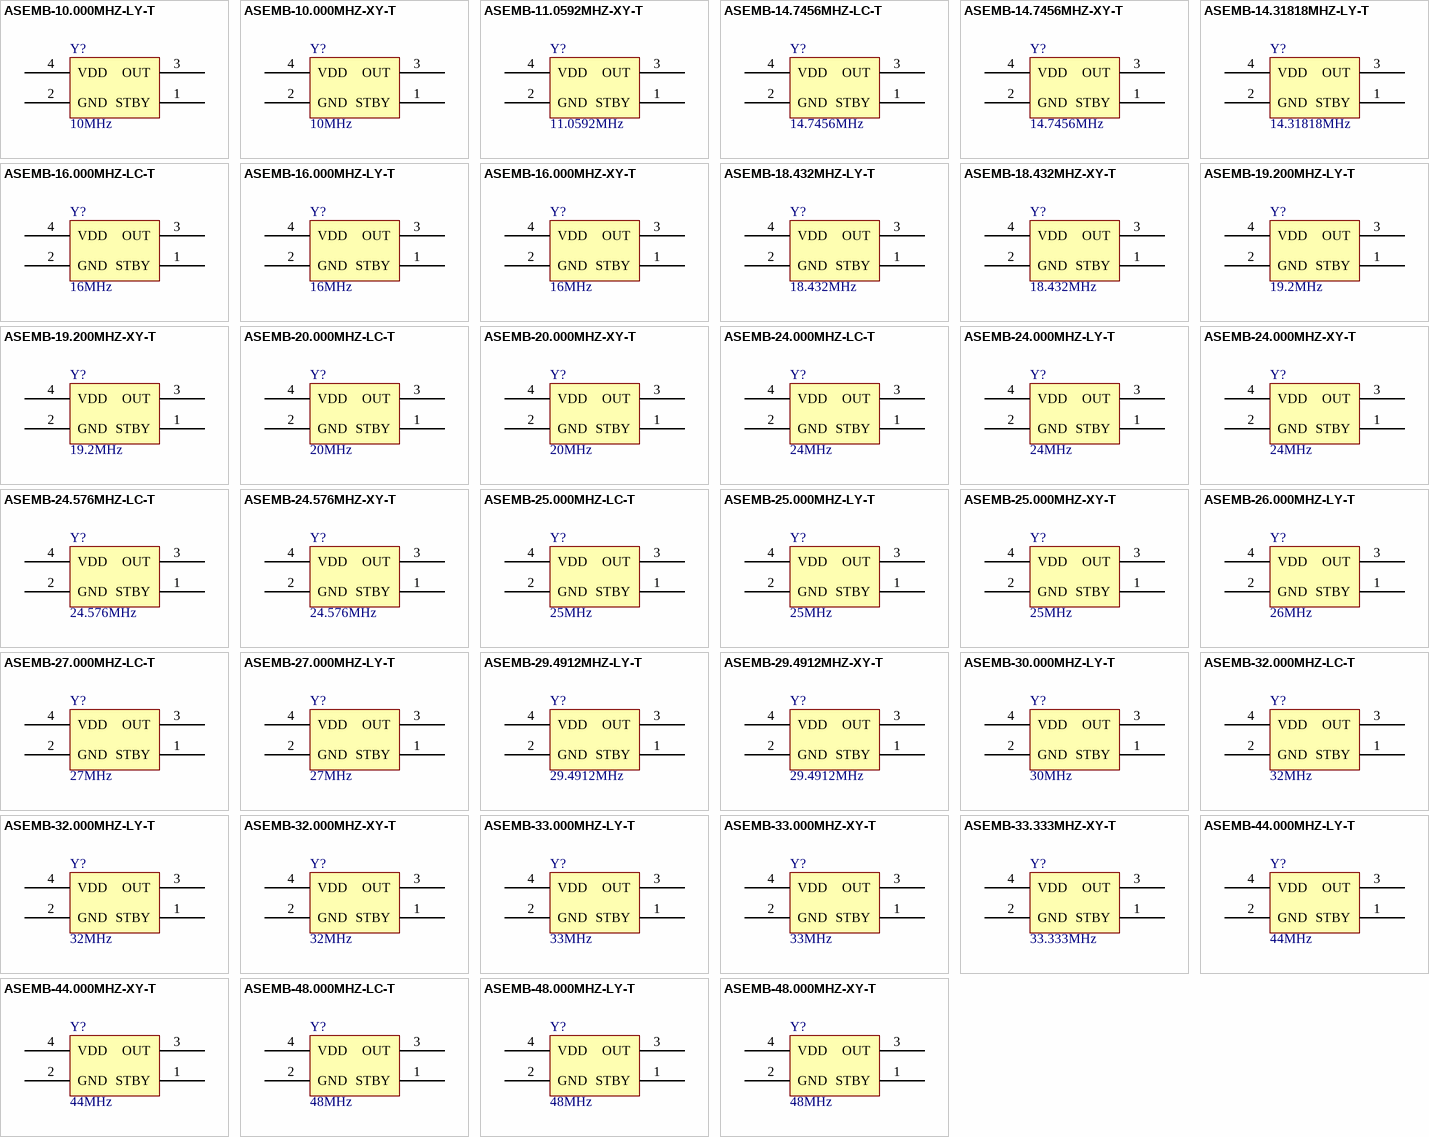
[diagram p3: symbols ASEMB-10.000MHZ-LY-T to ASEMB-48.000MHZ-XY-T]

## ASEMB-10.000MHZ-LY-T
designator Y?, comment 10MHz
OSC MEMS 10.000MHZ CMOS SMD; Part Number: ASEMB-10.000MHZ-LY-T; Manufacturer: Abracon LLC; Frequency Stability: 10ppm; PartId: 9044; Supplier 1: Digi-Key; Supplier Part Number 1: 535-11107-2-ND; ComponentLink1Description: Datasheet; ComponentLink1URL: http://www.abracon.com/Oscillators/ASEMB.pdf; ComponentLink2Description: Digi-Key Listing; ComponentLink2URL: https://www.digikey.com/product-detail/en/ASEMB-10.000MHZ-LY-T/535-11107-2-ND/2623869; Price: 1.2537; Type: MEMS (Silicon); Device Package: 4-SMD, No Lead (DFN, LCC); Series: Pure Silicon™ ASEMB; Frequency: 10MHz
footprint ABRACON ASEMB
pins: 1 STBY, 2 GND, 3 OUT, 4 VDD

## ASEMB-10.000MHZ-XY-T
designator Y?, comment 10MHz
OSC MEMS 10.000MHZ CMOS SMD; Part Number: ASEMB-10.000MHZ-XY-T; Manufacturer: Abracon LLC; Frequency Stability: 10ppm; PartId: 9057; Supplier 1: Digi-Key; Supplier Part Number 1: 535-11139-2-ND; ComponentLink1Description: Datasheet; ComponentLink1URL: http://www.abracon.com/Oscillators/ASEMB.pdf; ComponentLink2Description: Digi-Key Listing; ComponentLink2URL: https://www.digikey.com/product-detail/en/ASEMB-10.000MHZ-XY-T/535-11139-2-ND/2623870; Price: 1.4012; Type: MEMS (Silicon); Device Package: 4-SMD, No Lead (DFN, LCC); Series: Pure Silicon™ ASEMB; Frequency: 10MHz
footprint ABRACON ASEMB
pins: 1 STBY, 2 GND, 3 OUT, 4 VDD

## ASEMB-11.0592MHZ-XY-T
designator Y?, comment 11.0592MHz
OSC MEMS 11.0592MHZ CMOS SMD; Part Number: ASEMB-11.0592MHZ-XY-T; Manufacturer: Abracon LLC; Frequency Stability: 10ppm; PartId: 9063; Supplier 1: Digi-Key; Supplier Part Number 1: 535-11116-2-ND; ComponentLink1Description: Datasheet; ComponentLink1URL: http://www.abracon.com/Oscillators/ASEMB.pdf; ComponentLink2Description: Digi-Key Listing; ComponentLink2URL: https://www.digikey.com/product-detail/en/ASEMB-11.0592MHZ-XY-T/535-11116-2-ND/2623874; Price: 1.4012; Type: MEMS (Silicon); Device Package: 4-SMD, No Lead (DFN, LCC); Series: Pure Silicon™ ASEMB; Frequency: 11.0592MHz
footprint ABRACON ASEMB
pins: 1 STBY, 2 GND, 3 OUT, 4 VDD

## ASEMB-14.7456MHZ-LC-T
designator Y?, comment 14.7456MHz
OSC MEMS 14.7456MHZ CMOS SMD; Part Number: ASEMB-14.7456MHZ-LC-T; Manufacturer: Abracon LLC; Frequency Stability: 50ppm; PartId: 9024; Supplier 1: Digi-Key; Supplier Part Number 1: 535-11745-2-ND; ComponentLink1Description: Datasheet; ComponentLink1URL: http://www.abracon.com/Oscillators/ASEMB.pdf; ComponentLink2Description: Digi-Key Listing; ComponentLink2URL: https://www.digikey.com/product-detail/en/ASEMB-14.7456MHZ-LC-T/535-11745-2-ND/2809989; Price: 0.69; Type: MEMS (Silicon); Device Package: 4-SMD, No Lead (DFN, LCC); Series: Pure Silicon™ ASEMB; Frequency: 14.7456MHz
footprint ABRACON ASEMB
pins: 1 STBY, 2 GND, 3 OUT, 4 VDD

## ASEMB-14.7456MHZ-XY-T
designator Y?, comment 14.7456MHz
OSC MEMS 14.7456MHZ CMOS SMD; Part Number: ASEMB-14.7456MHZ-XY-T; Manufacturer: Abracon LLC; Frequency Stability: 10ppm; PartId: 9068; Supplier 1: Digi-Key; Supplier Part Number 1: 535-11119-2-ND; ComponentLink1Description: Datasheet; ComponentLink1URL: http://www.abracon.com/Oscillators/ASEMB.pdf; ComponentLink2Description: Digi-Key Listing; ComponentLink2URL: https://www.digikey.com/product-detail/en/ASEMB-14.7456MHZ-XY-T/535-11119-2-ND/2623884; Price: 1.4012; Type: MEMS (Silicon); Device Package: 4-SMD, No Lead (DFN, LCC); Series: Pure Silicon™ ASEMB; Frequency: 14.7456MHz
footprint ABRACON ASEMB
pins: 1 STBY, 2 GND, 3 OUT, 4 VDD

## ASEMB-14.31818MHZ-LY-T
designator Y?, comment 14.31818MHz
OSC MEMS 14.31818MHZ CMOS SMD; Part Number: ASEMB-14.31818MHZ-LY-T; Manufacturer: Abracon LLC; Frequency Stability: 10ppm; PartId: 9045; Supplier 1: Digi-Key; Supplier Part Number 1: 535-11086-2-ND; ComponentLink1Description: Datasheet; ComponentLink1URL: http://www.abracon.com/Oscillators/ASEMB.pdf; ComponentLink2Description: Digi-Key Listing; ComponentLink2URL: https://www.digikey.com/product-detail/en/ASEMB-14.31818MHZ-LY-T/535-11086-2-ND/2623881; Price: 1.2537; Type: MEMS (Silicon); Device Package: 4-SMD, No Lead (DFN, LCC); Series: Pure Silicon™ ASEMB; Frequency: 14.31818MHz
footprint ABRACON ASEMB
pins: 1 STBY, 2 GND, 3 OUT, 4 VDD

## ASEMB-16.000MHZ-LC-T
designator Y?, comment 16MHz
OSC MEMS 16.000MHZ CMOS SMD; Part Number: ASEMB-16.000MHZ-LC-T; Manufacturer: Abracon LLC; Frequency Stability: 50ppm; PartId: 9027; Supplier 1: Digi-Key; Supplier Part Number 1: 535-11746-2-ND; ComponentLink1Description: Datasheet; ComponentLink1URL: http://www.abracon.com/Oscillators/ASEMB.pdf; ComponentLink2Description: Digi-Key Listing; ComponentLink2URL: https://www.digikey.com/product-detail/en/ASEMB-16.000MHZ-LC-T/535-11746-2-ND/2809992; Price: 0.69; Type: MEMS (Silicon); Device Package: 4-SMD, No Lead (DFN, LCC); Series: Pure Silicon™ ASEMB; Frequency: 16MHz
footprint ABRACON ASEMB
pins: 1 STBY, 2 GND, 3 OUT, 4 VDD

## ASEMB-16.000MHZ-LY-T
designator Y?, comment 16MHz
OSC MEMS 16.000MHZ CMOS SMD; Part Number: ASEMB-16.000MHZ-LY-T; Manufacturer: Abracon LLC; Frequency Stability: 10ppm; PartId: 9050; Supplier 1: Digi-Key; Supplier Part Number 1: 535-11458-2-ND; ComponentLink1Description: Datasheet; ComponentLink1URL: http://www.abracon.com/Oscillators/ASEMB.pdf; ComponentLink2Description: Digi-Key Listing; ComponentLink2URL: https://www.digikey.com/product-detail/en/ASEMB-16.000MHZ-LY-T/535-11458-2-ND/2679524; Price: 1.2537; Type: MEMS (Silicon); Device Package: 4-SMD, No Lead (DFN, LCC); Series: Pure Silicon™ ASEMB; Frequency: 16MHz
footprint ABRACON ASEMB
pins: 1 STBY, 2 GND, 3 OUT, 4 VDD

## ASEMB-16.000MHZ-XY-T
designator Y?, comment 16MHz
OSC MEMS 16.000MHZ CMOS SMD; Part Number: ASEMB-16.000MHZ-XY-T; Manufacturer: Abracon LLC; Frequency Stability: 10ppm; PartId: 9059; Supplier 1: Digi-Key; Supplier Part Number 1: 535-11459-2-ND; ComponentLink1Description: Datasheet; ComponentLink1URL: http://www.abracon.com/Oscillators/ASEMB.pdf; ComponentLink2Description: Digi-Key Listing; ComponentLink2URL: https://www.digikey.com/product-detail/en/ASEMB-16.000MHZ-XY-T/535-11459-2-ND/2679525; Price: 1.4012; Type: MEMS (Silicon); Device Package: 4-SMD, No Lead (DFN, LCC); Series: Pure Silicon™ ASEMB; Frequency: 16MHz
footprint ABRACON ASEMB
pins: 1 STBY, 2 GND, 3 OUT, 4 VDD

## ASEMB-18.432MHZ-LY-T
designator Y?, comment 18.432MHz
OSC MEMS 18.432MHZ CMOS SMD; Part Number: ASEMB-18.432MHZ-LY-T; Manufacturer: Abracon LLC; Frequency Stability: 10ppm; PartId: 9032; Supplier 1: Digi-Key; Supplier Part Number 1: 535-11088-2-ND; ComponentLink1Description: Datasheet; ComponentLink1URL: http://www.abracon.com/Oscillators/ASEMB.pdf; ComponentLink2Description: Digi-Key Listing; ComponentLink2URL: https://www.digikey.com/product-detail/en/ASEMB-18.432MHZ-LY-T/535-11088-2-ND/2623887; Price: 1.2537; Type: MEMS (Silicon); Device Package: 4-SMD, No Lead (DFN, LCC); Series: Pure Silicon™ ASEMB; Frequency: 18.432MHz
footprint ABRACON ASEMB
pins: 1 STBY, 2 GND, 3 OUT, 4 VDD

## ASEMB-18.432MHZ-XY-T
designator Y?, comment 18.432MHz
OSC MEMS 18.432MHZ CMOS SMD; Part Number: ASEMB-18.432MHZ-XY-T; Manufacturer: Abracon LLC; Frequency Stability: 10ppm; PartId: 9056; Supplier 1: Digi-Key; Supplier Part Number 1: 535-11120-2-ND; ComponentLink1Description: Datasheet; ComponentLink1URL: http://www.abracon.com/Oscillators/ASEMB.pdf; ComponentLink2Description: Digi-Key Listing; ComponentLink2URL: https://www.digikey.com/product-detail/en/ASEMB-18.432MHZ-XY-T/535-11120-2-ND/2623888; Price: 1.4012; Type: MEMS (Silicon); Device Package: 4-SMD, No Lead (DFN, LCC); Series: Pure Silicon™ ASEMB; Frequency: 18.432MHz
footprint ABRACON ASEMB
pins: 1 STBY, 2 GND, 3 OUT, 4 VDD

## ASEMB-19.200MHZ-LY-T
designator Y?, comment 19.2MHz
OSC MEMS 19.20MHZ CMOS SMD; Part Number: ASEMB-19.200MHZ-LY-T; Manufacturer: Abracon LLC; Frequency Stability: 10ppm; PartId: 9021; Supplier 1: Digi-Key; Supplier Part Number 1: 535-11089-2-ND; ComponentLink1Description: Datasheet; ComponentLink1URL: http://www.abracon.com/Oscillators/ASEMB.pdf; ComponentLink2Description: Digi-Key Listing; ComponentLink2URL: https://www.digikey.com/product-detail/en/ASEMB-19.200MHZ-LY-T/535-11089-2-ND/2623889; Price: 1.2537; Type: MEMS (Silicon); Device Package: 4-SMD, No Lead (DFN, LCC); Series: Pure Silicon™ ASEMB; Frequency: 19.2MHz
footprint ABRACON ASEMB
pins: 1 STBY, 2 GND, 3 OUT, 4 VDD

## ASEMB-19.200MHZ-XY-T
designator Y?, comment 19.2MHz
OSC MEMS 19.20MHZ CMOS SMD; Part Number: ASEMB-19.200MHZ-XY-T; Manufacturer: Abracon LLC; Frequency Stability: 10ppm; PartId: 9058; Supplier 1: Digi-Key; Supplier Part Number 1: 535-11121-2-ND; ComponentLink1Description: Datasheet; ComponentLink1URL: http://www.abracon.com/Oscillators/ASEMB.pdf; ComponentLink2Description: Digi-Key Listing; ComponentLink2URL: https://www.digikey.com/product-detail/en/ASEMB-19.200MHZ-XY-T/535-11121-2-ND/2623890; Price: 1.4012; Type: MEMS (Silicon); Device Package: 4-SMD, No Lead (DFN, LCC); Series: Pure Silicon™ ASEMB; Frequency: 19.2MHz
footprint ABRACON ASEMB
pins: 1 STBY, 2 GND, 3 OUT, 4 VDD

## ASEMB-20.000MHZ-LC-T
designator Y?, comment 20MHz
OSC MEMS 20.000MHZ CMOS SMD; Part Number: ASEMB-20.000MHZ-LC-T; Manufacturer: Abracon LLC; Frequency Stability: 50ppm; PartId: 9025; Supplier 1: Digi-Key; Supplier Part Number 1: 535-11747-2-ND; ComponentLink1Description: Datasheet; ComponentLink1URL: http://www.abracon.com/Oscillators/ASEMB.pdf; ComponentLink2Description: Digi-Key Listing; ComponentLink2URL: https://www.digikey.com/product-detail/en/ASEMB-20.000MHZ-LC-T/535-11747-2-ND/2809995; Price: 0.69; Type: MEMS (Silicon); Device Package: 4-SMD, No Lead (DFN, LCC); Series: Pure Silicon™ ASEMB; Frequency: 20MHz
footprint ABRACON ASEMB
pins: 1 STBY, 2 GND, 3 OUT, 4 VDD

## ASEMB-20.000MHZ-XY-T
designator Y?, comment 20MHz
OSC MEMS 20.000MHZ CMOS SMD; Part Number: ASEMB-20.000MHZ-XY-T; Manufacturer: Abracon LLC; Frequency Stability: 10ppm; PartId: 9069; Supplier 1: Digi-Key; Supplier Part Number 1: 535-11122-2-ND; ComponentLink1Description: Datasheet; ComponentLink1URL: http://www.abracon.com/Oscillators/ASEMB.pdf; ComponentLink2Description: Digi-Key Listing; ComponentLink2URL: https://www.digikey.com/product-detail/en/ASEMB-20.000MHZ-XY-T/535-11122-2-ND/2623892; Price: 1.4012; Type: MEMS (Silicon); Device Package: 4-SMD, No Lead (DFN, LCC); Series: Pure Silicon™ ASEMB; Frequency: 20MHz
footprint ABRACON ASEMB
pins: 1 STBY, 2 GND, 3 OUT, 4 VDD

## ASEMB-24.000MHZ-LC-T
designator Y?, comment 24MHz
OSC MEMS 24.000MHZ CMOS SMD; Part Number: ASEMB-24.000MHZ-LC-T; Manufacturer: Abracon LLC; Frequency Stability: 50ppm; PartId: 9015; Supplier 1: Digi-Key; Supplier Part Number 1: 535-11748-2-ND; ComponentLink1Description: Datasheet; ComponentLink1URL: http://www.abracon.com/Oscillators/ASEMB.pdf; ComponentLink2Description: Digi-Key Listing; ComponentLink2URL: https://www.digikey.com/product-detail/en/ASEMB-24.000MHZ-LC-T/535-11748-2-ND/2809998; Price: 0.69; Type: MEMS (Silicon); Device Package: 4-SMD, No Lead (DFN, LCC); Series: Pure Silicon™ ASEMB; Frequency: 24MHz
footprint ABRACON ASEMB
pins: 1 STBY, 2 GND, 3 OUT, 4 VDD

## ASEMB-24.000MHZ-LY-T
designator Y?, comment 24MHz
OSC MEMS 24.000MHZ CMOS SMD; Part Number: ASEMB-24.000MHZ-LY-T; Manufacturer: Abracon LLC; Frequency Stability: 10ppm; PartId: 9043; Supplier 1: Digi-Key; Supplier Part Number 1: 535-11091-2-ND; ComponentLink1Description: Datasheet; ComponentLink1URL: http://www.abracon.com/Oscillators/ASEMB.pdf; ComponentLink2Description: Digi-Key Listing; ComponentLink2URL: https://www.digikey.com/product-detail/en/ASEMB-24.000MHZ-LY-T/535-11091-2-ND/2623893; Price: 1.2537; Type: MEMS (Silicon); Device Package: 4-SMD, No Lead (DFN, LCC); Series: Pure Silicon™ ASEMB; Frequency: 24MHz
footprint ABRACON ASEMB
pins: 1 STBY, 2 GND, 3 OUT, 4 VDD

## ASEMB-24.000MHZ-XY-T
designator Y?, comment 24MHz
OSC MEMS 24.000MHZ CMOS SMD; Part Number: ASEMB-24.000MHZ-XY-T; Manufacturer: Abracon LLC; Frequency Stability: 10ppm; PartId: 9022; Supplier 1: Digi-Key; Supplier Part Number 1: 535-11123-2-ND; ComponentLink1Description: Datasheet; ComponentLink1URL: http://www.abracon.com/Oscillators/ASEMB.pdf; ComponentLink2Description: Digi-Key Listing; ComponentLink2URL: https://www.digikey.com/product-detail/en/ASEMB-24.000MHZ-XY-T/535-11123-2-ND/2623894; Price: 1.4012; Type: MEMS (Silicon); Device Package: 4-SMD, No Lead (DFN, LCC); Series: Pure Silicon™ ASEMB; Frequency: 24MHz
footprint ABRACON ASEMB
pins: 1 STBY, 2 GND, 3 OUT, 4 VDD

## ASEMB-24.576MHZ-LC-T
designator Y?, comment 24.576MHz
OSC MEMS 24.576MHZ CMOS SMD; Part Number: ASEMB-24.576MHZ-LC-T; Manufacturer: Abracon LLC; Frequency Stability: 50ppm; PartId: 9039; Supplier 1: Digi-Key; Supplier Part Number 1: 535-11749-2-ND; ComponentLink1Description: Datasheet; ComponentLink1URL: http://www.abracon.com/Oscillators/ASEMB.pdf; ComponentLink2Description: Digi-Key Listing; ComponentLink2URL: https://www.digikey.com/product-detail/en/ASEMB-24.576MHZ-LC-T/535-11749-2-ND/2810001; Price: 0.69; Type: MEMS (Silicon); Device Package: 4-SMD, No Lead (DFN, LCC); Series: Pure Silicon™ ASEMB; Frequency: 24.576MHz
footprint ABRACON ASEMB
pins: 1 STBY, 2 GND, 3 OUT, 4 VDD

## ASEMB-24.576MHZ-XY-T
designator Y?, comment 24.576MHz
OSC MEMS 24.576MHZ CMOS SMD; Part Number: ASEMB-24.576MHZ-XY-T; Manufacturer: Abracon LLC; Frequency Stability: 10ppm; PartId: 9034; Supplier 1: Digi-Key; Supplier Part Number 1: 535-11124-2-ND; ComponentLink1Description: Datasheet; ComponentLink1URL: http://www.abracon.com/Oscillators/ASEMB.pdf; ComponentLink2Description: Digi-Key Listing; ComponentLink2URL: https://www.digikey.com/product-detail/en/ASEMB-24.576MHZ-XY-T/535-11124-2-ND/2623896; Price: 1.4012; Type: MEMS (Silicon); Device Package: 4-SMD, No Lead (DFN, LCC); Series: Pure Silicon™ ASEMB; Frequency: 24.576MHz
footprint ABRACON ASEMB
pins: 1 STBY, 2 GND, 3 OUT, 4 VDD

## ASEMB-25.000MHZ-LC-T
designator Y?, comment 25MHz
OSC MEMS 25.000MHZ CMOS SMD; Part Number: ASEMB-25.000MHZ-LC-T; Manufacturer: Abracon LLC; Frequency Stability: 50ppm; PartId: 9013; Supplier 1: Digi-Key; Supplier Part Number 1: 535-11750-2-ND; ComponentLink1Description: Datasheet; ComponentLink1URL: http://www.abracon.com/Oscillators/ASEMB.pdf; ComponentLink2Description: Digi-Key Listing; ComponentLink2URL: https://www.digikey.com/product-detail/en/ASEMB-25.000MHZ-LC-T/535-11750-2-ND/2810004; Price: 0.69; Type: MEMS (Silicon); Device Package: 4-SMD, No Lead (DFN, LCC); Series: Pure Silicon™ ASEMB; Frequency: 25MHz
footprint ABRACON ASEMB
pins: 1 STBY, 2 GND, 3 OUT, 4 VDD

## ASEMB-25.000MHZ-LY-T
designator Y?, comment 25MHz
OSC MEMS 25.000MHZ CMOS SMD; Part Number: ASEMB-25.000MHZ-LY-T; Manufacturer: Abracon LLC; Frequency Stability: 10ppm; PartId: 9020; Supplier 1: Digi-Key; Supplier Part Number 1: 535-11093-2-ND; ComponentLink1Description: Datasheet; ComponentLink1URL: http://www.abracon.com/Oscillators/ASEMB.pdf; ComponentLink2Description: Digi-Key Listing; ComponentLink2URL: https://www.digikey.com/product-detail/en/ASEMB-25.000MHZ-LY-T/535-11093-2-ND/2623897; Price: 1.2537; Type: MEMS (Silicon); Device Package: 4-SMD, No Lead (DFN, LCC); Series: Pure Silicon™ ASEMB; Frequency: 25MHz
footprint ABRACON ASEMB
pins: 1 STBY, 2 GND, 3 OUT, 4 VDD

## ASEMB-25.000MHZ-XY-T
designator Y?, comment 25MHz
OSC MEMS 25.000MHZ CMOS SMD; Part Number: ASEMB-25.000MHZ-XY-T; Manufacturer: Abracon LLC; Frequency Stability: 10ppm; PartId: 9023; Supplier 1: Digi-Key; Supplier Part Number 1: 535-11125-2-ND; ComponentLink1Description: Datasheet; ComponentLink1URL: http://www.abracon.com/Oscillators/ASEMB.pdf; ComponentLink2Description: Digi-Key Listing; ComponentLink2URL: https://www.digikey.com/product-detail/en/ASEMB-25.000MHZ-XY-T/535-11125-2-ND/2623898; Price: 1.4012; Type: MEMS (Silicon); Device Package: 4-SMD, No Lead (DFN, LCC); Series: Pure Silicon™ ASEMB; Frequency: 25MHz
footprint ABRACON ASEMB
pins: 1 STBY, 2 GND, 3 OUT, 4 VDD

## ASEMB-26.000MHZ-LY-T
designator Y?, comment 26MHz
OSC MEMS 26.000MHZ CMOS SMD; Part Number: ASEMB-26.000MHZ-LY-T; Manufacturer: Abracon LLC; Frequency Stability: 10ppm; PartId: 9016; Supplier 1: Digi-Key; Supplier Part Number 1: 535-11094-2-ND; ComponentLink1Description: Datasheet; ComponentLink1URL: http://www.abracon.com/Oscillators/ASEMB.pdf; ComponentLink2Description: Digi-Key Listing; ComponentLink2URL: https://www.digikey.com/product-detail/en/ASEMB-26.000MHZ-LY-T/535-11094-2-ND/2623899; Price: 1.1505; Type: MEMS (Silicon); Device Package: 4-SMD, No Lead (DFN, LCC); Series: Pure Silicon™ ASEMB; Frequency: 26MHz
footprint ABRACON ASEMB
pins: 1 STBY, 2 GND, 3 OUT, 4 VDD

## ASEMB-27.000MHZ-LC-T
designator Y?, comment 27MHz
OSC MEMS 27.000MHZ CMOS SMD; Part Number: ASEMB-27.000MHZ-LC-T; Manufacturer: Abracon LLC; Frequency Stability: 50ppm; PartId: 9028; Supplier 1: Digi-Key; Supplier Part Number 1: 535-11751-2-ND; ComponentLink1Description: Datasheet; ComponentLink1URL: http://www.abracon.com/Oscillators/ASEMB.pdf; ComponentLink2Description: Digi-Key Listing; ComponentLink2URL: https://www.digikey.com/product-detail/en/ASEMB-27.000MHZ-LC-T/535-11751-2-ND/2810007; Price: 0.69; Type: MEMS (Silicon); Device Package: 4-SMD, No Lead (DFN, LCC); Series: Pure Silicon™ ASEMB; Frequency: 27MHz
footprint ABRACON ASEMB
pins: 1 STBY, 2 GND, 3 OUT, 4 VDD